# EAGLE library part LM74610-Q1 (library 1zac)
LM74610-Q1 Zero IQ Reverse Polarity Protection Smart Diode Controller
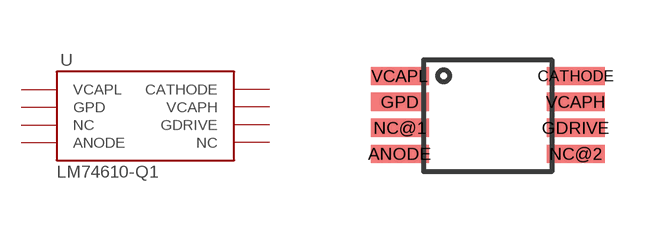
[diagram p2: symbol with the pads of VSSOP(8); footprint VSSOP(8)]

Designator prefix -

## LM74610-Q1 (MPN: LM74610-Q1)  [VSSOP(8)]
ANODE  ANODE
CATHODE  CATHODE
GDRIVE  GDRIVE
GPD  GPD
NC@1  NC  nc
NC@2  NC  nc
VCAPH  VCAPH
VCAPL  VCAPL

## Footprint VSSOP(8) (pad centres in mm)
smd 1.45 x 0.45: ANODE -2.2,-1.05; CATHODE 2.2,0.9; GDRIVE 2.2,-0.4; GPD -2.2,0.25; NC@1 -2.2,-0.4; NC@2 2.2,-1.05; VCAPH 2.2,0.25; VCAPL -2.2,0.9